# EAGLE library part A-HDF15A-KG/T (library #Assman A-HDF15A-KGT)
ASSMANN-WSW 15 POLIGE HD-SUB-D-BUCHSE 90GRAD
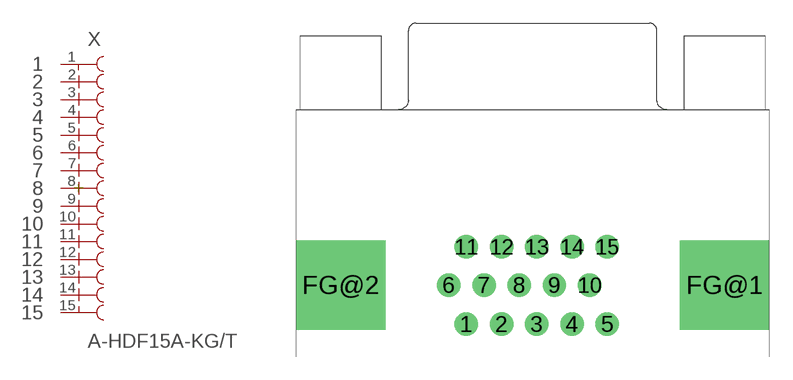
[diagram p0: symbol with the pads of A-HDF15A-KG/T; footprint A-HDF15A-KG/T]

Designator prefix X; gates  =BU15 BEF1=BEFESTIGUNG BEF2=BEFESTIGUNG

## A-HDF15A-KG/T  [A-HDF15A-KG/T]
1   :1  pas
2   :2  pas
3   :3  pas
4   :4  pas
5   :5  pas
6   :6  pas
7   :7  pas
8   :8  pas
9   :9  pas
10   :10  pas
11   :11  pas
12   :12  pas
13   :13  pas
14   :14  pas
15   :15  pas
FG@1  BEF1:1  pas
FG@2  BEF2:1  pas

## Footprint A-HDF15A-KG/T (pad centres in mm)
ASSMANN-WSW 15 POLIGE HD-SUB-D-BUCHSE 90GRAD
drill 0.9 pad 1.524 round: 1 11.095,2.13; 2 13.385,2.13; 3 15.675,2.13; 4 17.965,2.13; 5 20.255,2.13; 6 9.95,4.67; 7 12.24,4.67; 8 14.53,4.67; 9 16.82,4.67; 10 19.11,4.67; 11 11.095,7.165; 12 13.385,7.165; 13 15.675,7.165; 14 17.965,7.165; 15 20.255,7.165
drill 3.1 pad 5.82 square: FG@1 27.9,4.67; FG@2 2.91,4.67